# Altium footprint library Seaglider_Power_Board_PCB_Library.PcbLib: 28 footprints (part 2 of 2)
Each footprint in its own frame and in the unit in brackets; x right, y up, seen from the top. Pads: shape width x height; smd on the part's side, far side on the other; paste and mask are expansions set on the pad; w line width, h text height; cw(c..) or ccw(c..) is an arc to the next point about the centre after c.
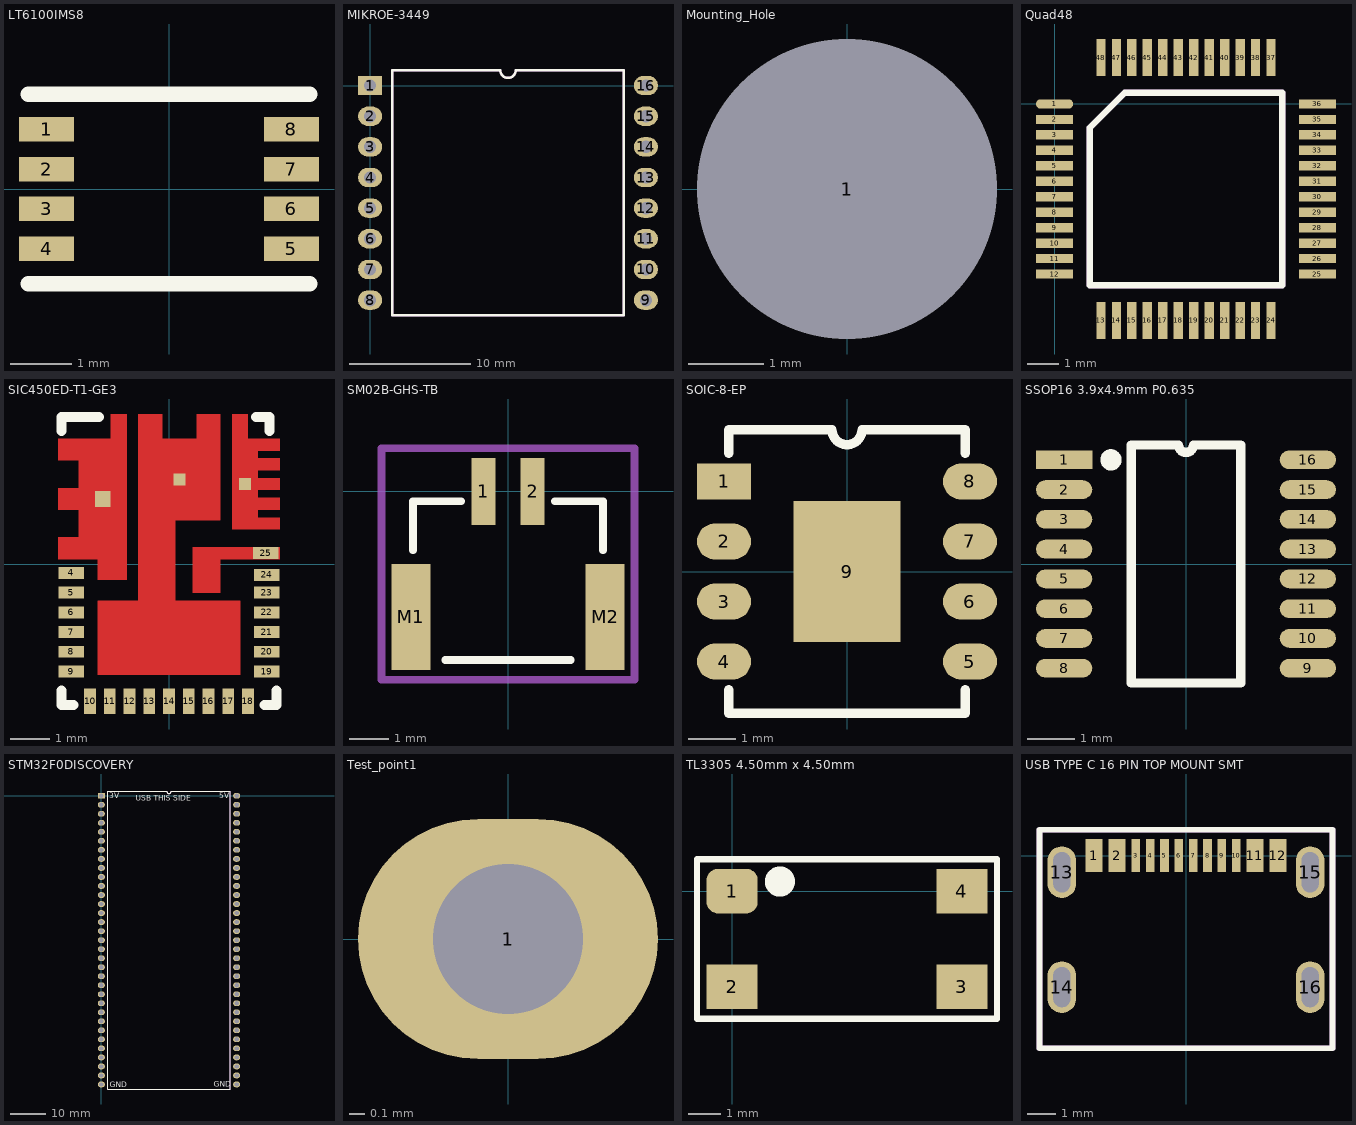
[diagram p1: the footprints below, top view; thin cyan lines are the x and y axes]

## LT6100IMS8 [mm]
pads (8):
  rect 0.9x0.4 smd: 1(-2,0.975) 2(-2,0.325) 3(-2,-0.325) 4(-2,-0.975) 5(2,-0.975) 6(2,-0.325) 7(2,0.325) 8(2,0.975)
Top Overlay:
  lines w0.254: -2.3,-1.55 2.3,-1.55 ; -2.3,1.55 2.3,1.55

## MIKROE-3449 [mm]
pads (16):
  rect 2x1.6 hole 1.02: 1(0,0)
  oval 2x1.6 hole 1.02: 2(0,-2.54) 3(0,-5.08) 4(0,-7.62) 5(0,-10.16) 6(0,-12.7) 7(0,-15.24) 8(0,-17.78) 9(22.86,-17.78) 10(22.86,-15.24) 11(22.86,-12.7) 12(22.86,-10.16) 13(22.86,-7.62) 14(22.86,-5.08) 15(22.86,-2.54) 16(22.86,0)
Top Overlay:
  lines w0.2: 1.835,-19.05 21.025,-19.05 21.025,1.27 12.065,1.27 cw(c11.43,1.27) 10.795,1.27 1.835,1.27 1.835,-19.05
Top Assembly:
  lines w0.2: 1.835,-19.05 21.025,-19.05 21.025,1.27 12.065,1.27 cw(c11.43,1.27) 10.795,1.27 1.835,1.27 1.835,-19.05

## Mounting_Hole [mil]
pads (1):
  round 60 hole 157.48 unplated: 1(0,0)

## Quad48 [mm]
pads (48):
  oval 1.2x0.3 smd: 1(0,0)
  rect 1.2x0.3 smd: 2(0,-0.5) 3(0,-1) 4(0,-1.5) 5(0,-2) 6(0,-2.5) 7(0,-3) 8(0,-3.5) 9(0,-4) 10(0,-4.5) 11(0,-5) 12(0,-5.5) 25(8.5,-5.5) 26(8.5,-5) 27(8.5,-4.5) 28(8.5,-4) 29(8.5,-3.5) 30(8.5,-3) 31(8.5,-2.5) 32(8.5,-2) 33(8.5,-1.5) 34(8.5,-1) 35(8.5,-0.5) 36(8.5,0)
  rect 0.3x1.2 smd: 13(1.5,-7) 14(2,-7) 15(2.5,-7) 16(3,-7) 17(3.5,-7) 18(4,-7) 19(4.5,-7) 20(5,-7) 21(5.5,-7) 22(6,-7) 23(6.5,-7) 24(7,-7) 37(7,1.5) 38(6.5,1.5) 39(6,1.5) 40(5.5,1.5) 41(5,1.5) 42(4.5,1.5) 43(4,1.5) 44(3.5,1.5) 45(3,1.5) 46(2.5,1.5) 47(2,1.5) 48(1.5,1.5)
Top Overlay:
  lines w0.2: 1.135,-5.865 7.365,-5.865 7.365,0.365 2.27,0.365 1.135,-0.77 1.135,-5.865
Top Assembly:
  lines w0.2: 1.135,-5.865 7.365,-5.865 7.365,0.365 2.27,0.365 1.135,-0.77 1.135,-5.865
  text ".Designator" at 0.776,-2.833 h0.7
3D body "LQFP48-7x7mm.step": height 1.6, standoff 0, extent -0.25,-7.244 8.744,1.75

## SIC450ED-T1-GE3 [mm]
pads (25):
  rect 0.4x0.4 smd: 1_3_34(-1.677,1.65)
  rect 0.65x0.3 smd: 4(-2.475,-0.225) 5(-2.475,-0.725) 6(-2.475,-1.225) 7(-2.475,-1.725) 8(-2.475,-2.225) 9(-2.475,-2.725) 19(2.475,-2.725) 20(2.475,-2.225) 21(2.475,-1.725) 22(2.475,-1.225) 23(2.475,-0.725) 24(2.475,-0.275) 25(2.45,0.275)
  rect 0.3x0.65 smd: 10(-2,-3.475) 11(-1.5,-3.475) 12(-1,-3.475) 13(-0.5,-3.475) 14(0,-3.475) 15(0.5,-3.475) 16(1,-3.475) 17(1.5,-3.475) 18(2,-3.475)
  rect 0.3x0.3 smd: 26_31(1.924,2.025) 32_33(0.262,2.14)
Top Layer:
  region: 2.8,0.125 1.298,0.125 1.298,-0.725 0.603,-0.725 0.603,0.425 2.8,0.425
  region: 1.998,3.175 2.8,3.175 2.8,2.875 2.25,2.875 2.25,2.675 2.8,2.675 2.8,2.375 2.25,2.375 2.25,2.175 2.8,2.175 2.8,1.875 2.25,1.875 2.25,1.675 2.8,1.675 2.8,1.375 2.25,1.375 2.25,1.175 2.8,1.175 2.8,0.875 1.598,0.875 1.598,3.8 1.998,3.8
  region: 1.298,1.105 0.155,1.105 0.155,-0.925 1.8,-0.925 1.8,-2.8 -1.8,-2.8 -1.8,-0.925 -0.775,-0.925 -0.775,3.8 -0.175,3.8 -0.175,3.175 0.698,3.175 0.698,3.8 1.298,3.8
  region: -1.075,-0.4 -1.8,-0.4 -1.8,0.125 -2.8,0.125 -2.8,0.675 -2.28,0.675 -2.28,1.375 -2.8,1.375 -2.8,1.925 -2.28,1.925 -2.28,2.625 -2.8,2.625 -2.8,3.175 -1.475,3.175 -1.475,3.8 -1.075,3.8
Top Overlay:
  lines w0.254: -2.725,-3.2 -2.725,-3.575 -2.425,-3.575 ; -2.725,3.375 -2.725,3.725 -1.775,3.725 ; 2.2,3.725 2.55,3.725 2.55,3.375 ; 2.425,-3.575 2.725,-3.575 2.725,-3.2

## SM02B-GHS-TB [mm]
pads (4):
  rect 0.6x1.7 smd: 1(-0.625,0) 2(0.625,0)
  rect 1x2.7 smd: M1(-2.475,-3.2) M2(2.475,-3.2)
Top Overlay:
  lines w0.2: -2.425,-1.5 -2.425,-0.25 -1.2,-0.25 ; -1.6,-4.3 1.6,-4.3 ; 1.2,-0.25 2.425,-0.25 2.425,-1.5
Assembly:
  lines w0.2: -3.225,-4.8 -3.225,1.1 3.225,1.1 3.225,-4.8 -3.225,-4.8
3D body "SM02B-GHS-TB-LF--SN---3DModel-STEP-56544.STEP": height 4.25, standoff 0, extent -2.875,-4.348 2.875,0.502

## SOIC-8-EP [mm]
pads (9):
  rect 1.143x0.76 smd: 1(-2.602,1.905)
  oval 1.143x0.76 smd: 2(-2.602,0.635) 3(-2.602,-0.635) 4(-2.602,-1.905) 5(2.602,-1.905) 6(2.602,-0.635) 7(2.602,0.635) 8(2.602,1.905)
  rect 2.26x2.99 smd: 9(0,0)
Top Overlay:
  lines w0.2: -2.5,-2.5 -2.5,-3 2.5,-3 2.5,-2.5 ; -2.5,2.5 -2.5,3 -0.318,3 ccw(c0,3) 0.318,3 2.5,3 2.5,2.5
Top Assembly:
  text ".Designator" at -2.286,3.81 h1.52

## SSOP16 3.9x4.9mm P0.635 [mm]
pads (16):
  rect 1.2x0.4 smd: 1(-2.6,2.222)
  oval 1.2x0.4 smd: 2(-2.6,1.587) 3(-2.6,0.953) 4(-2.6,0.318) 5(-2.6,-0.318) 6(-2.6,-0.953) 7(-2.6,-1.587) 8(-2.6,-2.222) 9(2.6,-2.222) 10(2.6,-1.587) 11(2.6,-0.953) 12(2.6,-0.318) 13(2.6,0.318) 14(2.6,0.953) 15(2.6,1.587) 16(2.6,2.222)
Top Overlay:
  circle w0.254: c-1.6,2.222 r0.1
  lines w0.2: -1.165,-2.54 -1.165,2.54 -0.159,2.54 ccw(c0,2.54) 0.159,2.54 1.165,2.54 1.165,-2.54 -1.165,-2.54
Top Assembly:
  text ".Designator" at -3.102,2.886 h1.2
3D body "SSOP-16_3.9x4.9mm_P0.635mm.step": height 1.85, standoff 0, extent -3,-2.45 3,2.45

## STM32F0DISCOVERY [mm]
pads (66):
  rect 2x1.6 / inner rect 2x1.2 / far side rect 2x1.6 hole 1.2: 1(0,0)
  oval 2x1.6 / inner oval 2x1.2 / far side oval 2x1.6 hole 1.2: 2(0,-2.54) 3(0,-5.08) 4(0,-7.62) 5(0,-10.16) 6(0,-12.7) 7(0,-15.24) 8(0,-17.78) 9(0,-20.32) 10(0,-22.86) 11(0,-25.4) 12(0,-27.94) 13(0,-30.48) 14(0,-33.02) 15(0,-35.56) 16(0,-38.1) 17(0,-40.64) 18(0,-43.18) 19(0,-45.72) 20(0,-48.26) 21(0,-50.8) 22(0,-53.34) 23(0,-55.88) 24(0,-58.42) 25(0,-60.96) 26(0,-63.5) 27(0,-66.04) 28(0,-68.58) 29(0,-71.12) 30(0,-73.66) 31(0,-76.2) 32(0,-78.74) 33(0,-81.28) 34(38.1,-81.28) 35(38.1,-78.74) 36(38.1,-76.2) 37(38.1,-73.66) 38(38.1,-71.12) 39(38.1,-68.58) 40(38.1,-66.04) 41(38.1,-63.5) 42(38.1,-60.96) 43(38.1,-58.42) 44(38.1,-55.88) 45(38.1,-53.34) 46(38.1,-50.8) 47(38.1,-48.26) 48(38.1,-45.72) 49(38.1,-43.18) 50(38.1,-40.64) 51(38.1,-38.1) 52(38.1,-35.56) 53(38.1,-33.02) 54(38.1,-30.48) 55(38.1,-27.94) 56(38.1,-25.4) 57(38.1,-22.86) 58(38.1,-20.32) 59(38.1,-17.78) 60(38.1,-15.24) 61(38.1,-12.7) 62(38.1,-10.16) 63(38.1,-7.62) 64(38.1,-5.08) 65(38.1,-2.54) 66(38.1,0)
Top Overlay:
  lines w0.2: 1.835,-82.55 36.265,-82.55 36.265,1.27 19.685,1.27 cw(c19.05,1.27) 18.415,1.27 1.835,1.27 1.835,-82.55
  text "USB THIS SIDE" at 9.754,-1.446 h1.52
  text "GND" at 2.354,-82.046 h1.52
  text "GND" at 31.654,-81.946 h1.52
  text "3V" at 2.254,-0.646 h1.52
  text "5V" at 33.254,-0.746 h1.52
Top Assembly:
  lines w0.2: 1.835,-82.55 1.835,1.27 18.415,1.27 ccw(c19.05,1.27) 19.685,1.27 36.265,1.27 36.265,-82.55 1.835,-82.55
  text ".Designator" at -0.146,2.562 h1.52

## Test_point1 [mm]
pads (1):
  oval 2x1.6 hole 1: 1(0,0)

## TL3305 4.50mm x 4.50mm [mm]
pads (4):
  rrect50% 1.6x1.4 smd: 1(0,0)
  rect 1.6x1.4 smd: 2(0,-3) 3(7.2,-3) 4(7.2,0)
Top Overlay:
  circle w0.5: c1.5,0.3 r0.224
  lines w0.2: -1.1,-4 8.3,-4 8.3,1 -1.1,1 -1.1,-4
Top Assembly:
  text ".Designator" at -1.07,1.616 h1.2
3D body "TL3305AFxxxxG.step": height 3.7, standoff -0.1, extent -0.15,-3.75 7.35,0.75

## USB TYPE C 16 PIN TOP MOUNT SMT [mm]
pads (16):
  rect 0.6x1.15 smd: 1(-3.2,0) 2(-2.4,0) 11(2.4,0) 12(3.2,0)
  rect 0.3x1.15 smd: 3(-1.75,0) 4(-1.25,0) 5(-0.75,0) 6(-0.25,0) 7(0.25,0) 8(0.75,0) 9(1.25,0) 10(1.75,0)
  oval 1x1.8 hole 0.6 slot 1.4 at 90 deg: 13(-4.32,-0.575) 14(-4.32,-4.575) 15(4.32,-0.575) 16(4.32,-4.575)
Top Overlay:
  lines w0.2: -5.1,-6.7 -5.1,0.9 5.1,0.9 5.1,-6.7 -5.1,-6.7
Top Assembly:
  lines w0.2: -5.1,-6.7 -5.1,0.9 5.1,0.9 5.1,-6.7 -5.1,-6.7
  text ".Designator" at -2.846,-3.838 h1.52
3D body "2171790001.step": height 3.17, standoff -0.89, extent -4.495,-6.5 4.445,0.25